# Altium schematic symbol library CHIP-Library.SCHLIB: 393 symbols (part 4 of 4)
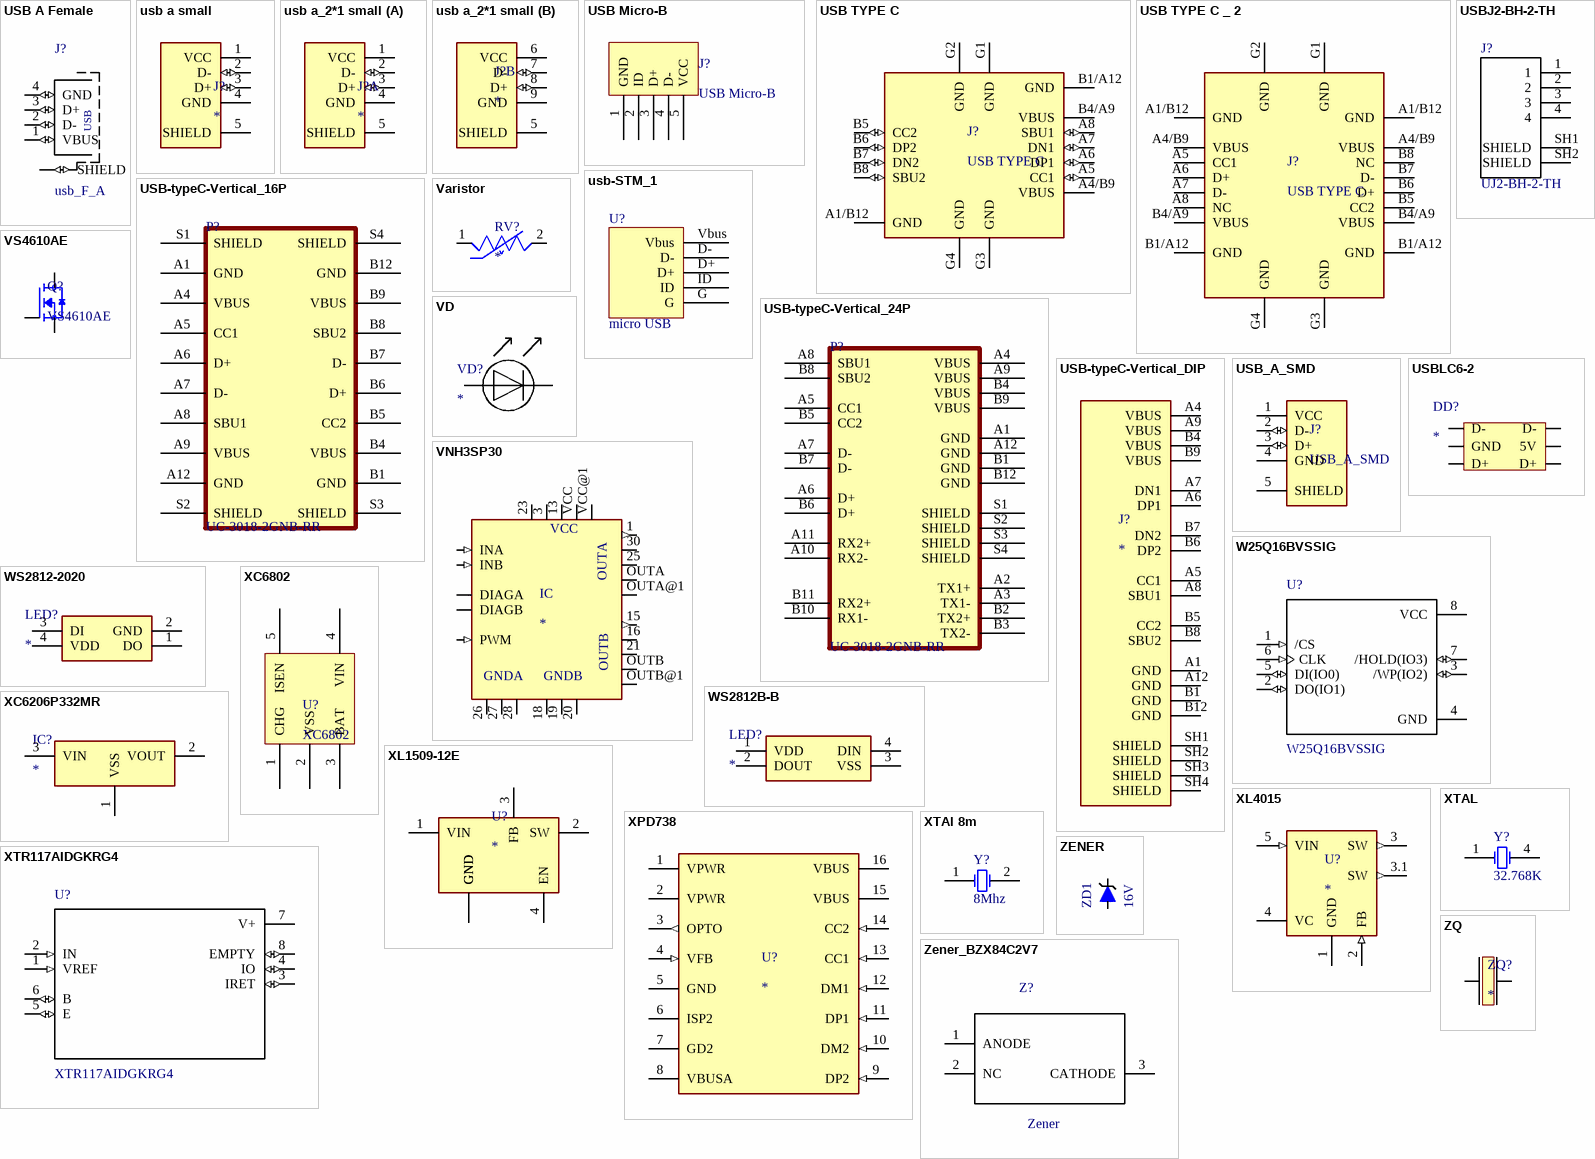
[diagram p18: symbols USB A Female to ZQ]

## USB TYPE C _ 2
designator J?, comment USB TYPE C
USB-C _USB TYPE-C_ USB 2.0 Receptacle Connector 24 _16+8 Dummy_ Position Surface Mount, Right Angle; Through Hole  USB4105_REVA; MF: Global Connector Technology; SnapEDA_Link: https://www.snapeda.com/parts/USB4105/Global%20Connector%20Technology/view-part/4223080/?ref=snap; Value: *; Price: None; Availability: Unavailable; MP: USB4105; Package: Package Analog Devices
footprint USB-C
pins: A1/B12 GND (power), A1/B12 GND (power), A4/B9 VBUS (power), A4/B9 VBUS (power), A5 CC1, A6 D+, A7 D-, A8 NC, B1/A12 GND (power), B1/A12 GND (power), B4/A9 VBUS (power), B4/A9 VBUS (power), B5 CC2, B6 D+, B7 D-, B8 NC, G1 GND (power), G2 GND (power), G3 GND (power), G4 GND (power)

## usb-STM_1
designator U?, comment micro USB
footprint Micro_USB_v2 - duplicate
pins: D+, D-, G, ID, Vbus

## USB-typeC-Vertical_16P
designator P?, comment UC-3018-2GNB-RR
Type-C
footprint USB-typeC-Vertical-16P
pins: A1 GND (power), A4 VBUS, A5 CC1, A6 D+, A7 D-, A8 SBU1, A9 VBUS, A12 GND (power), B1 GND, B4 VBUS, B5 CC2, B6 D+, B7 D-, B8 SBU2, B9 VBUS, B12 GND, S1 SHIELD, S2 SHIELD, S3 SHIELD, S4 SHIELD

## USB-typeC-Vertical_24P
designator P?, comment UC-3018-2GNB-RR
Type-C
footprint USB-typeC-Vertical-24P
pins: A1 GND (power), A2 TX1+, A3 TX1-, A4 VBUS, A5 CC1, A6 D+, A7 D-, A8 SBU1, A9 VBUS, A10 RX2-, A11 RX2+, A12 GND (power), B1 GND, B2 TX2+, B3 TX2-, B4 VBUS, B5 CC2, B6 D+, B7 D-, B8 SBU2, B9 VBUS, B10 RX1-, B11 RX2+, B12 GND, S1 SHIELD, S2 SHIELD, S3 SHIELD, S4 SHIELD

## USB-typeC-Vertical_DIP
designator J?
CUI_UJ20-C-V-C-2-SMT-TR; Package: None; Price: None; Value: *; MP: UJ20-C-V-C-2-SMT-TR; Availability: Unavailable
footprint USB-typeC-Vertical_DIP (CUI_UJ20-C-V-C-2-SMT-TR)
pins: A1 GND, A4 VBUS, A5 CC1, A6 DP1, A7 DN1, A8 SBU1, A9 VBUS, A12 GND, B1 GND, B4 VBUS, B5 CC2, B6 DP2, B7 DN2, B8 SBU2, B9 VBUS, B12 GND, SH1 SHIELD, SH2 SHIELD, SH3 SHIELD, SH4 SHIELD

## USB_A_SMD
designator J?
USB-A (USB TYPE-A) USB 2.0 Receptacle Connector 4 Position Surface Mount, Right Angle; MP: USB-A-S-F-B-SM2; MF: Samtec; SnapEDA_Link: https://www.snapeda.com/parts/USB-A-S-F-B-SM2/Samtec%20Inc./view-part/937545/?ref=snap; Value: *; Availability: Unavailable; DigiKey-Purchase-URL: https://snapeda.com/shop?store=DigiKey&id=937545; Package: None; Toby_UK-Purchase-URL: https://snapeda.com/shop?store=Toby+UK&id=937545; Price: None
footprint USB_A_SMD
pins: 1 VCC (power), 2 D- (io), 3 D+ (io), 4 GND (power), 5 SHIELD

## USBJ2-BH-2-TH
designator J?, comment UJ2-BH-2-TH
USB jack 2.0, standard B type, 4 pin, horizontal, 6 Âµin plating, through hole; MF: CUI Inc.; Availability: Unavailable; Package: None; SnapEDA_Link: https://www.snapeda.com/parts/UJ2-BH-2-TH/CUI%20Inc./view-part/?ref=snap; MP: UJ2-BH-2-TH; Price: None; CUI_purchase_URL: https://www.cui.com/product/interconnect/usb-connectors/type-b/uj2-bh-th-series?utm_source=snapeda.com&utm_medium=referral&utm_campaign=snapedaBOM; Value: *
footprint Usb B
pins: 1, 2, 3, 4, SH1 SHIELD, SH2 SHIELD

## USBLC6-2
designator DD?
footprint SOT-23-6
pins: 1 D-, 2 GND, 3 D+, 4 D+, 5 5V, 6 D-

## Varistor
designator RV?
470 V 8 kA Varistor 1 Circuit Through Hole Disc 8mm; MP: B72220S0301K101; MF: TDK; Purchase-URL: https://pricing.snapeda.com/search/part/B72220S0301K101/?ref=eda; Package: None; SnapEDA_Link: https://www.snapeda.com/parts/B72220S0301K101/TDK/view-part/?ref=snap; Price: None; Availability: In Stock; Value: *; Check_prices: https://www.snapeda.com/parts/B72220S0301K101/TDK/view-part/?ref=eda
footprint VAR_B72220S0301K101
pins: 1, 2

## VD
designator VD?
footprint 0805
pins: 1, 2

## VNH3SP30
designator IC
Motor Driver Power MOSFET Parallel, PWM MultiPowerSO-30; MF: STMicroelectronics; MP: VNH3SP30; SnapEDA_Link: https://www.snapeda.com/parts/VNH3SP30/STMicroelectronics/view-part/42627/?ref=snap; Value: *; Price: None; Availability: Unavailable; Package: 0-3 STMicroelectronics
footprint VNH3SP30 (Motor Driver Power MOSFET Parallel, PWM MultiPowerSO-30)
pins: 1 OUTA (out), 3 VCC (power), 5 INA (in), 6 DIAGA (oc), 8 PWM (in), 10 DIAGB (oc), 11 INB (in), 13 VCC@1 (power), 15 OUTB (out), 16 OUTB@1, 18 GNDB (power), 19 GNDB@1 (power), 20 GNDB@2 (power), 21 OUTB@2, 23 VCC@2 (power), 25 OUTA@2, 26 GNDA@2 (power), 27 GNDA@1 (power), 28 GNDA (power), 30 OUTA@1, OUTA OUTA@3, OUTA@1 OUTA@4, OUTB OUTB@3, OUTB@1 OUTB@4, VCC VCC@3 (power), VCC@1 VCC@4 (power)

## VS4610AE
designator Q?
N-Channel 40V 3*3; MF: Toshiba Semiconductor; MP: TPHR8504PL,L1Q; Package: SOP-8 Toshiba; Price: None; Value: *; SnapEDA_Link: https://www.snapeda.com/parts/TPHR8504PL,L1Q/Toshiba%20Semiconductor%20and%20Storage/view-part/604439/?ref=snap; Availability: Unavailable
footprint VS4610AE (DFN_3*3)
pins: 1 S, 4 G, 5 D

## W25Q16BVSSIG
designator U?
FLASH - NOR Memory IC 16Mb _2M x 8_ SPI 104MHz 8-SOIC; MF: Winbond; SnapEDA_Link: https://www.snapeda.com/parts/W25Q16BVSSIG/Winbond%20Electronics/view-part/512685/?ref=snap; Price: None; MP: W25Q16BVSSIG; Availability: Unavailable; Package: SOIC-8 Winbond; Value: *
footprint W25Q16
pins: 1 /CS (in), 2 DO(IO1) (io), 3 /WP(IO2) (io), 4 GND (power), 5 DI(IO0) (io), 6 CLK (in), 7 /HOLD(IO3) (io), 8 VCC (power)

## WS2812-2020
designator LED?
LED; Manufacturer_Name: Worldsemi; Manufacturer_Part_Number: WS2812-2020; Datasheet Link: http://www.world-semi.com/DownLoadFile/140; Height: 0.84mm
footprint WS28122020
pins: 1 DO, 2 GND, 3 DI, 4 VDD

## WS2812B-B
designator LED?
LED; Manufacturer_Name: Worldsemi; Manufacturer_Part_Number: WS2812B-B; Datasheet Link: http://www.world-semi.com/DownLoadFile/111; Height: 1.62mm
footprint WS2812BB
pins: 1 VDD, 2 DOUT, 3 VSS, 4 DIN

## XC6206P332MR
designator IC?
Integrated Circuit; Manufacturer_Name: Torex; Manufacturer_Part_Number: XC6206P332MR; Datasheet Link: http://www.torexsemi.com/products/voltage_regulators/data/XC6206.pdf; Height: 1.3mm
footprint XC6206P332MR
pins: 1 VSS, 2 VOUT, 3 VIN

## XC6802
designator U?
Single cell li-ion charger
footprint SOT-25
pins: 1 CHG, 2 VSS, 3 BAT, 4 VIN, 5 ISEN

## XL1509-12E
designator U?
Regulator SOP-8; Manufacturer_Name: Fitipower; Manufacturer_Part_Number: FR9886SOGTR; Datasheet Link: https://www.insidegadgets.com/wp-content/uploads/2015/03/FR9886.pdf; Height: 1.75mm
footprint FR9886
pins: 1 VIN, 2 SW, 3 FB, 4 EN, 5 GND, 6 GND, 7 GND, 8 GND

## XL4015
designator U?
5A 180KHz 36V Buck DC to DC Converter; MF: XLSEMI; MP: XL4015; Value: *; Availability: Unavailable; Price: None; SnapEDA_Link: https://www.snapeda.com/parts/XL4015/XLSEMI/view-part/4725363/?ref=snap; Package: Package
footprint XL4015
pins: 1 GND (power), 2 FB (in), 3 SW (out), 3.1 SW (out), 4 VC, 5 VIN (in)

## XPD738
designator U?
USB Type-C PD & Type-A; MF: Texas Instruments; MP: TPS61031PWP; SnapEDA_Link: https://www.snapeda.com/parts/TPS61031PWP/Texas+Instruments/view-part/?ref=snap; Package: HTSSOP-16 Texas Instruments; Value: *; Check_prices: https://www.snapeda.com/parts/TPS61031PWP/Texas+Instruments/view-part/?ref=eda
footprint XPD738 (TSSOP-16)
pins: 1 VPWR (power), 2 VPWR (power), 3 OPTO (out), 4 VFB (in), 5 GND (power), 6 ISP2 (power), 7 GD2 (power), 8 VBUSA (power), 9 DP2 (in), 10 DM2 (in), 11 DP1 (in), 12 DM1 (in), 13 CC1 (in), 14 CC2 (in), 15 VBUS (power), 16 VBUS (power)

## XTAL
designator Y?, comment 32.768K
Crystal Oscillator; Published: 8-Jun-2000; LatestRevisionDate: 17-Jul-2002; LatestRevisionNote: Re-released for DXP Platform.; Publisher: Altium Limited
simulation model XTAL (Spice Subcircuit)
footprint MC-306
pins: 1 OSC1, 4 OSC2

## XTAl 8m
designator Y?, comment 8Mhz
Crystal Oscillator; Published: 8-Jun-2000; LatestRevisionDate: 17-Jul-2002; LatestRevisionNote: Re-released for DXP Platform.; Publisher: Altium Limited
simulation model XTAL (Spice Subcircuit)
footprint XTAL1
footprint XTAL1 (Primary)
pins: 1 OSC1, 2 OSC2

## XTR117AIDGKRG4
designator U?
Sensors, Sensor Conditioning, 4-20mA Transmitters XTR117 4-20mA Crnt Loop Transmitter; MF: Texas Instruments; SnapEDA_Link: https://www.snapeda.com/parts/XTR117AIDGKRG4/Texas%20Instruments/view-part/?ref=snap; Availability: Unavailable; MP: XTR117AIDGKRG4; Price: 1.14 USD; Package: MSOP-8 Texas Instruments; Value: *
footprint XTR117
pins: 1 VREF (in), 2 IN (in), 3 IRET (io), 4 IO (io), 5 E (io), 6 B (io), 7 V+ (power), 8 EMPTY (io)

## ZENER
designator ZD1, comment 16V
ZENER DIODE; MP: EDZV12B; MF: ROHM Semiconductor; Price: None; Package: None; SnapEDA_Link: https://www.snapeda.com/parts/EDZV12B/EMI/view-part/4479349/?ref=snap; Availability: Unavailable; Value: *
footprint ZENER 1/2W
pins: A, K

## Zener_BZX84C2V7
designator Z?, comment Zener
Diode: Zener; 0.35W; 2.7V; SMD; reel, tape; SOT23; MP: BZX84C2V7; MF: Diodes Inc.; Price: None; Availability: Unavailable; Package: None; SnapEDA_Link: https://www.snapeda.com/parts/BZX84C2V7/Diodes%20Inc./view-part/?ref=snap; Value: *
footprint Zener
pins: 1 ANODE, 2 NC, 3 CATHODE

## ZQ
designator ZQ?
footprint ZQ
pins: 1, 3